# Altium footprint library KX-8T.PcbLib: 1 footprints
Each footprint in its own frame and in the unit in brackets; x right, y up, seen from the top. Pads: shape width x height; smd on the part's side, far side on the other; paste and mask are expansions set on the pad; w line width, h text height; cw(c..) or ccw(c..) is an arc to the next point about the centre after c.
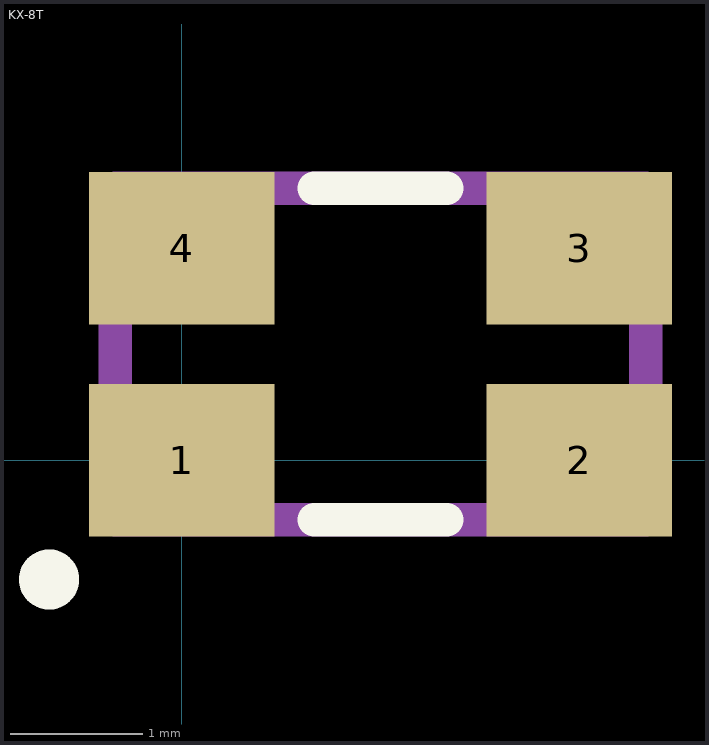
[diagram p0: the footprint, top view; thin cyan lines are the x and y axes]

## KX-8T [mm]
pads (4):
  rect 1.4x1.15 smd: 1(0,0) 2(3,0) 3(3,1.6) 4(0,1.6)
Top Overlay:
  circle w0.254: c-1,-0.9 r0.1
  lines w0.254: 1,-0.45 2,-0.45 ; 1,2.05 2,2.05
TopAssy:
  lines w0.254: -0.5,-0.45 3.5,-0.45 3.5,2.05 -0.5,2.05 -0.5,-0.45
3D body "User Library-GeyerElectronics_KX8A.step": height 0.81, standoff 0, extent -0.5,-0.45 3.5,2.05